# Altium schematic symbol library SCH - PASSIVES - INDUCTOR DUAL 12 _ 43.Schlib: 1 symbol
Pins are listed as number, name and electrical type; pins without a type are passive.

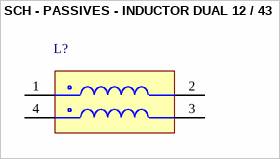
[diagram p0: symbol SCH - PASSIVES - INDUCTOR DUAL 12 / 43]

## SCH - PASSIVES - INDUCTOR DUAL 12 / 43
designator L?
footprint 7W15B-220M (Sagami Class D Inductor 22±20%×2 uH)
pins: 1, 2, 3, 4